# Altium schematic symbol library Symbols.SchLib: 22 symbols
Pins are listed as number, name and electrical type; pins without a type are passive.

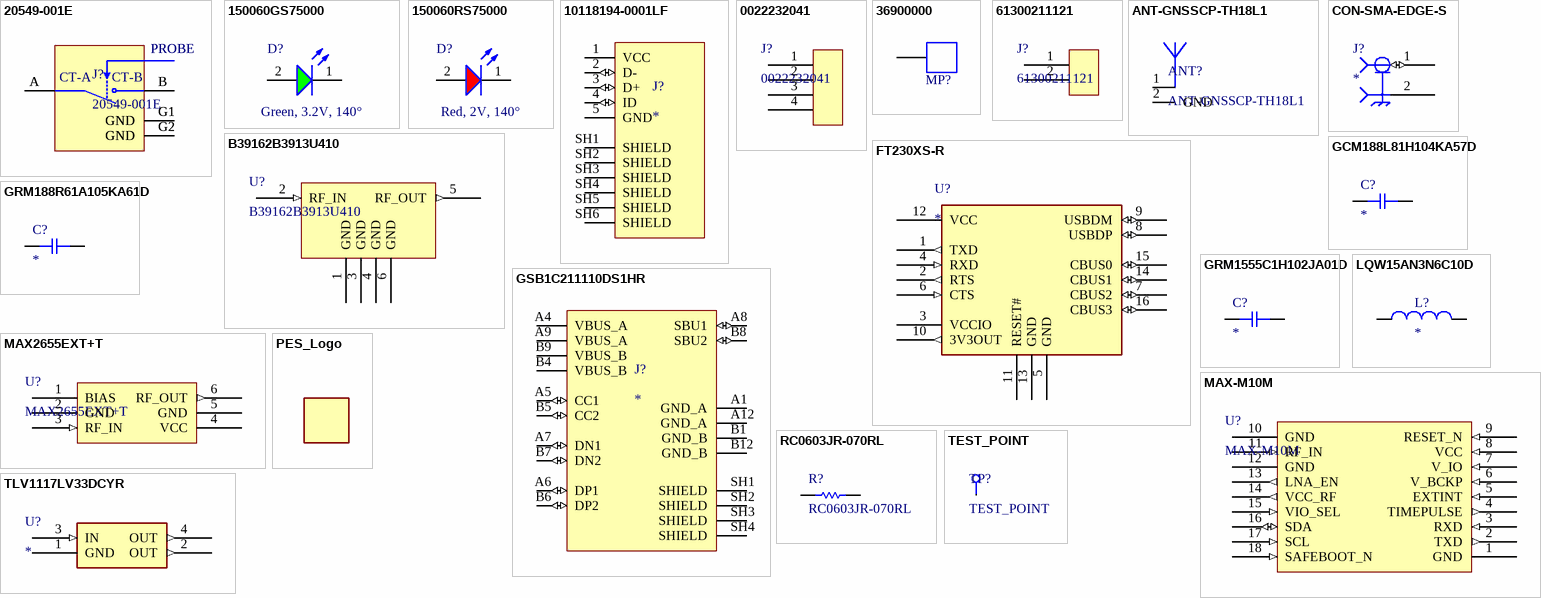
[diagram p0: symbols 20549-001E to TLV1117LV33DCYR]

## 20549-001E
designator J?
1 POS Vertical SMD Coaxial RF switch connector with a 2.3 x 2.3 mm footprint and support to 11 GHz, MHC; MF: I-PEX; Package: None; Value: *; MP: 20549-001E; Availability: Warning; Price: None; SnapEDA_Link: https://www.snapeda.com/parts/20549-001E/I-PEX/view-part/3220455/?ref=snap; Check_prices: https://www.snapeda.com/parts/20549-001E/I-PEX/view-part/3220455/?ref=eda
footprint IPEX_20549-001E
pins: A CT-A, A CT-A, B CT-B, B CT-B, G1 GND (power), G1 GND (power), G2 GND (power), G2 GND (power)
text: PROBE

## 150060GS75000
designator D?, comment Green, 3.2V, 140°
WL-SMCW Mono-color Chip LED Waterclear, SMT, size 0603, Green, 3.2V, 140°; Manufacturer Part Number: 150060GS75000; Manufacturer: Wurth Elektronik; Case/Size Code: 0603; Chip Technology: InGaN; Dominant Wavelength: 525nm; Luminous Intensity: 430mcd; Peak Wavelength: 515nm; Category: Signal LEDs; Match Code: WL-SMCW; ComponentLink1Description: Website Link; ComponentLink1URL: https://www.we-online.com/redexpert/article/150060GS75000?ad; ComponentLink2Description: Datasheet Link; ComponentLink2URL: https://www.we-online.com/redexpert/spec/150060GS75000?ad; Mount: Surface Mount; Operating Temperature Max: 85°C; Operating Temperature Min: -40°C; Packaging: Tape and Reel; Length: 1.6mm; Width: 0.8mm; Height: 0.7mm; Emitting Color: Green; Forward Voltage: 3.2V; Viewing Angle: 140°
footprint WL-SMCW
pins: 1 K, 2 A

## 150060RS75000
designator D?, comment Red, 2V, 140°
WL-SMCW Mono-color Chip LED Waterclear, SMT, size 0603, Red, 2V, 140°; Manufacturer Part Number: 150060RS75000; Manufacturer: Wurth Elektronik; Case/Size Code: 0603; Chip Technology: AlInGaP; Dominant Wavelength: 625nm; Luminous Intensity: 250mcd; Peak Wavelength: 630nm; Category: Signal LEDs; Match Code: WL-SMCW; ComponentLink1Description: Website Link; ComponentLink1URL: https://www.we-online.com/redexpert/article/150060RS75000?ad; ComponentLink2Description: Datasheet Link; ComponentLink2URL: https://www.we-online.com/redexpert/spec/150060RS75000?ad; Mount: Surface Mount; Operating Temperature Max: 85°C; Operating Temperature Min: -40°C; Packaging: Tape and Reel; Length: 1.6mm; Width: 0.8mm; Height: 0.7mm; Emitting Color: Red; Forward Voltage: 2V; Viewing Angle: 140°
footprint WL-SMCW
pins: 1 K, 2 A

## 10118194-0001LF
designator J?
Micro USB, Input Output Connectors, B TYPE RECEPTACLE with flange; MF: Amphenol ICC; MP: 10118194-0001LF; SnapEDA_Link: https://www.snapeda.com/parts/10118194-0001LF/Amphenol+FCI/view-part/?ref=snap; Package: None; Value: *; Check_prices: https://www.snapeda.com/parts/10118194-0001LF/Amphenol+FCI/view-part/?ref=eda
footprint AMPHENOL_10118194-0001LF
pins: 1 VCC (power), 2 D- (io), 3 D+ (io), 4 ID (io), 5 GND (power), SH1 SHIELD, SH2 SHIELD, SH3 SHIELD, SH4 SHIELD, SH5 SHIELD, SH6 SHIELD

## 0022232041
designator J?
CONN HEADER VERT 4POS 2.54MM
footprint CONN HEADER VERT 4POS 2.54MM
pins: 1, 2, 3, 4

## 36900000
designator MP?  (value not drawn)
WE-SHC Shielding Cabinet, Clip, Tin Plated, Tape and Reel, 6.5x0.8x1.27mm; Manufacturer: Wurth Elektronik; Base Material: Steel; ComponentLink1Description: Website Link; ComponentLink1URL: https://www.we-online.com/redexpert/article/36900000?ad; ComponentLink2Description: Datasheet Link; ComponentLink2URL: https://www.we-online.com/redexpert/spec/36900000?ad; Manufacturer Part Number: 36900000; Category: EMC Shielding; Match Code: WE-SHC; Mount: Surface Mount; Operating Temperature Max: 125°C; Operating Temperature Min: -40°C; Packaging: Tape and Reel; Length: 6.5mm; Width: 0.8mm; Height: 1.27mm; Plating: Tin Plated; Type: Clip
footprint 36900000 (Shielding Cabinet Clip)
pins: 1

## 61300211121
designator J?
CONN HEADER VERT 2POS 2.54MM
footprint 61300211121
pins: 1, 2

## ANT-GNSSCP-TH18L1
designator ANT?
CERAMIC PATCH GNSS ANTENNA
footprint ANT-GNSSCP-TH18L1
pins: 1 RF_IN, 2 GND

## B39162B3913U410
designator U?
FILTER SAW 1.588GHZ 6SMD
footprint B39162B3913U410
pins: 1 GND (power), 2 RF_IN (in), 3 GND (power), 4 GND (power), 5 RF_OUT (out), 6 GND (power)

## CON-SMA-EDGE-S
designator J?
CONN SMA JACK STR EDGE MNT
footprint RFSOLUTIONS_CON-SMA-EDGE-S
pins: 1 RF (io), 2 GND (power)

## FT230XS-R
designator U?
USB FULL SPEED TO SERIAL UART IC
footprint FT230XS-R (SOP, 16-Leads, Body 4.90x3.90mm, Pitch 0.64mm, IPC Medium Density)
pins: 1 TXD (out), 2 RTS (out), 3 VCCIO (power), 4 RXD (in), 5 GND (power), 6 CTS (in), 7 CBUS2 (io), 8 USBDP (io), 9 USBDM (io), 10 3V3OUT (out), 11 RESET# (power), 12 VCC (power), 13 GND (power), 14 CBUS1 (io), 15 CBUS0 (io), 16 CBUS3 (io)

## GCM188L81H104KA57D
designator C?
CAP CER 0.1UF 50V X8L 0603; Capacitance: 0.1uF
footprint CAP_MURATA_0603
pins: 1, 2

## GRM188R61A105KA61D
designator C?
CAP CER 1UF 10V X5R 0603; Capacitance: 1uF
footprint CAP_MURATA_0603
pins: 1, 2

## GRM1555C1H102JA01D
designator C?
CAP CER 1000PF 50V C0G/NP0 0402; Capacitance: 1uF
footprint 0402_CAP
pins: 1, 2

## GSB1C211110DS1HR
designator J?
USB2.0, Type C, Top mount, Center Height 1.78mm, Dual Row DIP; MF: Amphenol Canada; MP: GSB1C211110DS1HR; SnapEDA_Link: https://www.snapeda.com/parts/GSB1C211110DS1HR/Amphenol/view-part/?ref=snap; Package: None; Value: *; Check_prices: https://www.snapeda.com/parts/GSB1C211110DS1HR/Amphenol/view-part/?ref=eda
footprint AMPHENOL_GSB1C211110DS1HR
pins: A1 GND_A (power), A4 VBUS_A (power), A5 CC1 (io), A6 DP1 (io), A7 DN1 (io), A8 SBU1 (io), A9 VBUS_A (power), A12 GND_A (power), B1 GND_B (power), B4 VBUS_B (power), B5 CC2 (io), B6 DP2 (io), B7 DN2 (io), B8 SBU2 (io), B9 VBUS_B (power), B12 GND_B (power), SH1 SHIELD, SH2 SHIELD, SH3 SHIELD, SH4 SHIELD

## LQW15AN3N6C10D
designator L?
FIXED IND 3.6NH 900MA 40 MOHM; MP: LQW15AN3N6C10D; Package: None; Price: None; Value: *; Availability: Unavailable
footprint INDC1006X60N
pins: 1, 2

## MAX2655EXT+T
designator U?
IC AMP GPS 1.4GHZ-1.7GHZ SC70-6
footprint MAX2655EXT+T (TSOP, 6-Leads, Body 2.00x1.25mm, Pitch 0.65mm, IPC Medium Density)
pins: 1 BIAS, 2 GND (power), 3 RF_IN (in), 4 VCC (power), 5 GND (power), 6 RF_OUT (out)

## MAX-M10M
designator U?
GNSS LCC RX MOD, ROM, CRYSTAL
footprint MAX-M10M
pins: 1 GND (power), 2 TXD (out), 3 RXD (in), 4 TIMEPULSE (out), 5 EXTINT (in), 6 V_BCKP (in), 7 V_IO (in), 8 VCC (in), 9 RESET_N (in), 10 GND (power), 11 RF_IN (in), 12 GND (power), 13 LNA_EN (out), 14 VCC_RF (out), 15 VIO_SEL (in), 16 SDA (io), 17 SCL (in), 18 SAFEBOOT_N (in)

## PES_Logo
designator ?
footprint PES_LOGO

## RC0603JR-070RL
designator R?
Chip Resistor, 0 Ohm, +/- 5%, 0.1 W, -55 to 155 degC, 0603 (1608 Metric), RoHS, Tape and Reel; Manufacturer: Yageo; Temperature Coefficient: 200ppm/degreesC; Voltage Rating: 50V; Power Rating: 100mW; Resistance: 0mOhm; Width: 0.8mm; Max Operating Temperature: 155degC; Tolerance: 5%; Package Reference: 0603; Height: 0.45mm; Depth: 0.8mm; Package Description: 2-Pin Surface Mount Device, Body 1.6 x 0.8 mm; Termination: SMD/SMT; Package Quantity: 5000; Case/Package: 0603; Case Code (Imperial): 0603; Radiation Hardening: No; Number of Pins: 2; Length: 1.6mm; Lead Free: LeadFree; Voltage Rating (DC): 50V; Military Standard: Not; Datasheet URL: http://www.yageo.com/NewPortal/yageodocoutput?fileName=/pdf/R-Chip/PYu-RC_Group_51_RoHS_L_5.pdf; Manufacturer URL: http://www.yageo.com/; Packaging: TapeandReel; Case Code (Metric): 1608; Min Operating Temperature: -55degC; Composition: ThickFilm; RoHSCompliant: true; Contact Plating: Tin; Datasheet Version: Rev. 5, 10/2016; REACH SVHC: NoSVHC
footprint RC0603JR-070RL (Chip Resistor, 2-Leads, Body 1.60x0.80mm, IPC Medium Density)
pins: 1, 2

## TEST_POINT
designator TP?
TEST POINT 2MM
footprint TEST_POINT
pins: 1, 1

## TLV1117LV33DCYR
designator U?
IC REG LINEAR 3.3V 1A SOT223-4
footprint TLV1117LV33DCYR (SOT223, 4-Leads, Body 6.50x7.00mm (avg), Pitch 2.30mm, IPC Medium Density)
pins: 1 GND (power), 2 OUT (out), 3 IN (in), 4 OUT (out)